# Altium schematic symbol library CAN_TCAN1057A-Q1_VSON.Schlib: 1 symbol
Pins are listed as number, name and electrical type; pins without a type are passive.

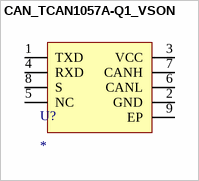
[diagram p0: symbol CAN_TCAN1057A-Q1_VSON]

## CAN_TCAN1057A-Q1_VSON
designator U?
CAN transceiver
pins: 1 TXD, 2 GND, 3 VCC, 4 RXD, 5 NC, 6 CANL, 7 CANH, 8 S, 9 EP